# Altium schematic symbol library WaterTemp1wirepin.SchLib: 1 symbol
Pins are listed as number, name and electrical type; pins without a type are passive.

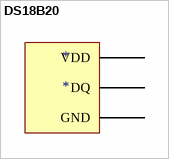
[diagram p0: symbol DS18B20]

## DS18B20
designator *
pins: 3 VDD, 4 DQ, 5 GND